# Altium footprint library Passives.PcbLib: 58 footprints (part 2 of 4)
Each footprint in its own frame and in the unit in brackets; x right, y up, seen from the top. Pads: shape width x height; smd on the part's side, far side on the other; paste and mask are expansions set on the pad; w line width, h text height; cw(c..) or ccw(c..) is an arc to the next point about the centre after c.
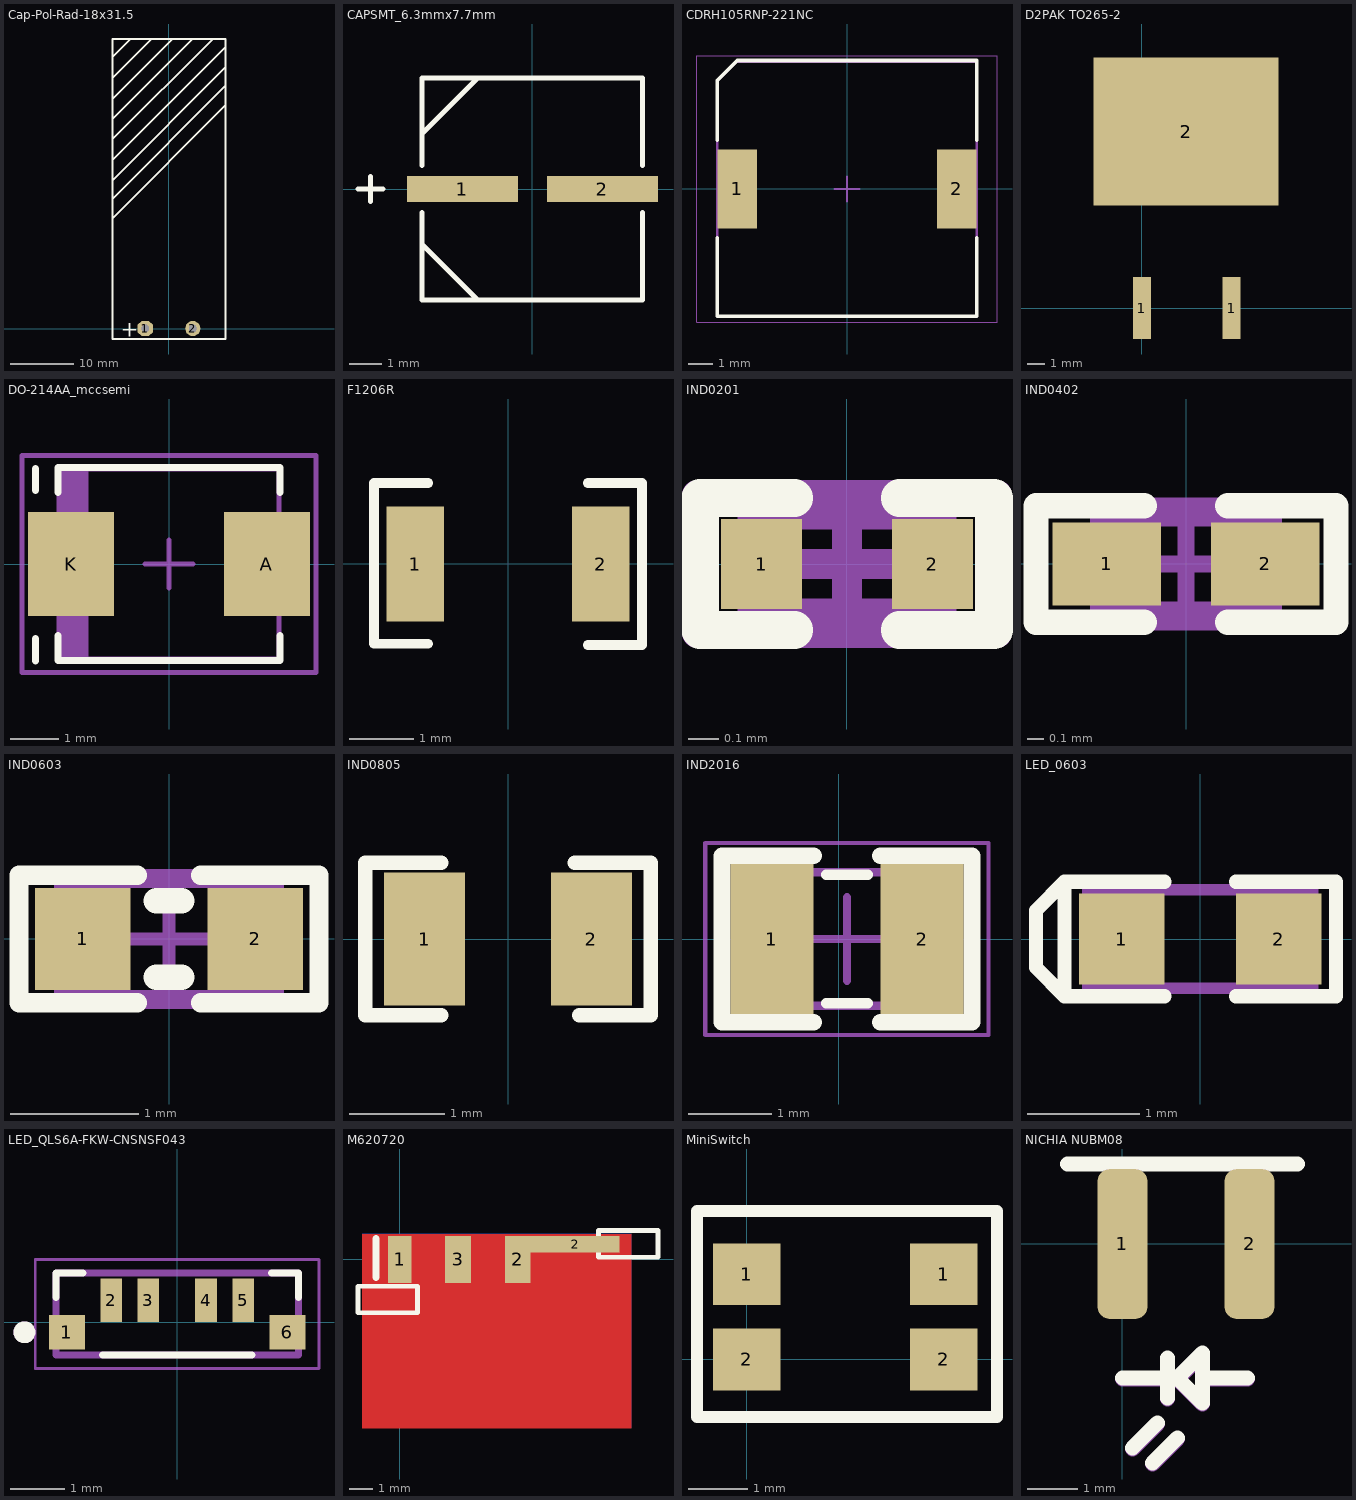
[diagram p1: the footprints below, top view; thin cyan lines are the x and y axes]

## Cap-Pol-Rad-18x31.5 [mm]
pads (2):
  oct 2.4x2.4 hole 1.2: 1(-3.75,0)
  round 2.4 hole 1.2: 2(3.75,0)
Top Overlay:
  lines w0.2: -8.89,15.748 -8.89,20.447 8.89,38.227 ; -8.89,16.637 -8.89,17.399 8.89,35.179 8.89,35.306 ; -8.89,21.463 -8.89,23.368 8.89,41.148 ; -8.89,25.273 -8.89,26.543 8.89,44.323 ; -8.89,28.575 -8.89,29.845 6.858,45.593 ; -8.89,32.131 -8.89,33.02 3.683,45.593 ; -8.89,36.195 0.508,45.593 -2.794,45.593 -8.89,39.497 -8.89,37.592 ; -8.89,42.799 -6.096,45.593 -5.461,45.593
  lines w0.3: -8.89,-1.651 8.89,-1.651 8.89,45.593 -8.89,45.593 -8.89,-1.651
  text "+" at -7.62,-1.27 h2.5
Mechanical 7:
  text ".Designator" at 0,-0.508 h0.3
3D body "CAPAER_D180_L315_P075_W008X030.STEP": height 18, standoff 0, extent -9.002,11.191 9.008,45.705

## CAPSMT_6.3mmx7.7mm [mil] "EEE-1VA101XP"
pads (2):
  rect 134x31 smd: 1(-84.5,0) 2(84.5,0)
Top Overlay:
  lines w6: -210.5,0 -180.5,0 ; -195.5,-15 -195.5,15 ; -133,-67 -66,-134 ; -133,-28.6 -133,-134 133,-134 133,-28.6 ; -133,28.6 -133,134 133,134 133,28.6 ; -133,67 -66,134
3D body "EEE-1VA101XP.STEP": height 303.19, standoff 0, extent -143.7,-129.92 143.7,129.92

## CDRH105RNP-221NC [mm] "Power Inductor"
pads (2):
  rect 1.6x3.2 smd: 1(-4.45,0) 2(4.45,0)
Top Overlay:
  lines w0.15: -5.25,-1.975 -5.25,-5.15 5.25,-5.15 5.25,-1.975 ; -5.25,1.975 -5.25,4.402 -4.445,5.207 5.25,5.207 5.25,1.975
Mechanical 15:
  lines w0.05: -6.075,-5.4 6.075,-5.4 6.075,5.4 -6.075,5.4 -6.075,-5.4
  lines w0.1: -0.5,0 0.5,0 ; 0,-0.5 0,0.5
Mechanical 17:
  lines w0.1: -5.25,-5.15 -5.25,4.402 -4.502,5.15 5.25,5.15 5.25,-5.15 -5.25,-5.15
  text ".Designator" at -3.175,-0.762 h0.8
3D body "CDRH105R.step": height 5.2, standoff 0, extent -5.2,-5 5.2,5

## D2PAK TO265-2 [mm]
pads (3):
  rect 1.016x3.504 smd: 1(0,0) 1(5.08,0)
  rect 10.49x8.38 smd: 2(2.5,10)
3D body "TO263-3-2.stp": height 4.22, standoff 0, extent -2.411,-1.06 7.411,13.541

## DO-214AA_mccsemi [mil]
pads (2):
  rect 70x85 smd: A(80,0) K(-80,0)
Top Overlay:
  lines w5.91: -109,-79 -109,-61 ; -109,60 -109,78 ; -90.55,-58.66 -90.55,-78.74 90.55,-78.74 90.55,-58.66 ; -90.55,58.66 -90.55,78.74 90.55,78.74 90.55,58.66
Mechanical 15:
  lines w3.94: -19.69,0 19.68,0 ; 0,-19.68 0,19.69 ; -120.08,-88.58 -120.08,88.58 120.08,88.58 120.08,-88.58 -120.08,-88.58
Mechanical 17:
  rectangle: -89.96,-77.56 -65.76,77.56
  lines w3.94: -89.96,-77.56 -89.96,77.56 89.96,77.56 89.96,-77.56 -89.96,-77.56
  text ".Designator" at -50,-25 h11.81
3D body "DO-214AA(SMB).step": height 103.36, standoff -0.64, extent -110,-77.74 110,77.76

## F1206R [mm]
pads (2):
  rect 0.9x1.8 smd: 1(-1.45,0) 2(1.45,0)
Top Overlay:
  lines w0.152: -1.25,-1.25 -2.1,-1.25 -2.1,1.27 -1.25,1.27 ; 1.25,-1.27 2.1,-1.27 2.1,1.27 1.25,1.27
Mechanical 7:
  text ".Designator" at -0.508,-0.127 h0.3
3D body "mf-nsmf075.stp": height 0.55, standoff 0, extent -1.6,-0.8 1.6,0.8

## IND0201 [mm]
pads (2):
  rect 0.27x0.3 smd: 1(-0.285,0) 2(0.285,0)
Top Overlay:
  lines w0.125: -0.175,-0.22 -0.49,-0.22 -0.49,0.22 -0.175,0.22 ; 0.175,-0.22 0.49,-0.22 0.49,0.22 0.175,0.22
Mechanical 7:
  lines w0.1: -0.315,-0.165 0.315,-0.165 0.315,0.165 -0.315,0.165 -0.315,-0.165
  text ".Designator" at -0.285,0 h0.3
Mechanical 15:
  lines w0.1: -0.165,0 0.165,0 ; 0,-0.165 0,0.165 ; -0.5,-0.23 0.5,-0.23 0.5,0.23 -0.5,0.23 -0.5,-0.23
3D body "User Library-smt_inductor-0201.step": height 0.26, standoff -0.01, extent -0.31,-0.16 0.31,0.16

## IND0402 [mm]
pads (2):
  rect 0.65x0.5 smd: 1(-0.475,0) 2(0.475,0)
Top Overlay:
  lines w0.152: -0.25,-0.35 -0.9,-0.35 -0.9,0.35 -0.25,0.35 ; 0.25,-0.35 0.9,-0.35 0.9,0.35 0.25,0.35
Mechanical 7:
  lines w0.1: -0.525,-0.275 -0.525,0.275 0.525,0.275 0.525,-0.275 -0.525,-0.275
  text ".Designator" at -0.432,-0.152 h0.3
Mechanical 15:
  lines w0.1: -0.275,0 0.275,0 ; 0,-0.275 0,0.275 ; -0.9,-0.35 -0.9,0.35 0.9,0.35 0.9,-0.35 -0.9,-0.35
3D body "User Library-Chip Inductor 0402.step": height 0.5, standoff 0, extent -0.5,-0.3 0.5,0.3

## IND0603 [mm]
pads (2):
  rect 0.75x0.8 smd: 1(-0.675,0) 2(0.675,0)
Top Overlay:
  lines w0.152: -0.25,-0.5 -1.175,-0.5 -1.175,0.5 -0.25,0.5 ; 0.25,-0.5 1.175,-0.5 1.175,0.5 0.25,0.5
  lines w0.2: -0.1,-0.3 0.1,-0.3 ; -0.1,0.3 0.1,0.3
Mechanical 7:
  lines w0.1: -0.85,-0.45 -0.85,0.45 0.85,0.45 0.85,-0.45 -0.85,-0.45
  text ".Designator" at -0.7,-0.2 h0.38
Mechanical 15:
  lines w0.1: -0.45,0 0.45,0 ; 0,-0.45 0,0.45 ; -1.175,-0.5 1.175,-0.5 1.175,0.5 -1.175,0.5 -1.175,-0.5
3D body "User Library-Chip Inductor.step": height 0.8, standoff 0, extent -0.8,-0.475 0.8,0.475

## IND0805 [mm] "Inductor 0805 reflow soldering"
pads (2):
  rect 0.85x1.4 smd: 1(-0.875,0) 2(0.875,0)
Top Overlay:
  lines w0.152: -0.7,-0.8 -1.5,-0.8 -1.5,0.8 -0.7,0.8 ; 0.7,0.8 1.5,0.8 1.5,-0.8 0.75,-0.8
Mechanical 7:
  text ".Designator" at -0.508,-0.127 h0.3
3D body "Inductor 0805.step": height 0.99, standoff -0.01, extent -1,-0.588 1,0.6

## IND2016 [mm] "Shielded Multilayer Inductor, 1.2A, ï¿½20%, 110mOhm, Q=10 @ 1MHz"
pads (2):
  rect 1x1.8 smd: 1(-0.8,0) 2(1,0)
Top Overlay:
  lines w0.125: -0.15,-0.77 0.35,-0.77 ; -0.15,0.77 0.35,0.77
  lines w0.2: -0.3,-1 -1.4,-1 -1.4,1 -0.3,1 ; 0.5,-1 1.6,-1 1.6,1 0.5,1
Mechanical 7:
  lines w0.1: -0.9,-0.8 1.1,-0.8 1.1,0.8 -0.9,0.8 -0.9,-0.8
  text ".Designator" at -0.425,-0.175 h0.38
Mechanical 15:
  lines w0.05: -1.6,-1.15 -1.6,1.15 1.8,1.15 1.8,-1.15 -1.6,-1.15
  lines w0.1: -0.4,0 0.6,0 ; 0.1,-0.5 0.1,0.5
3D body "INDC2016X10N.step": height 1, standoff 0, extent -0.9,-0.8 1.1,0.8

## LED_0603 [mil]
pads (2):
  rect 30x32 smd: 1(-27.5,0) 2(27.5,0)
Top Overlay:
  lines w5: -12.5,-20 -47.5,-20 ; -12.5,20 -47.5,20 ; 12.5,-20 47.5,-20 47.5,20 12.5,20 ; -47.5,-20 -57.5,-10 -57.5,10 -47.5,20 ; -47.5,-20 -47.5,20
Mechanical 7:
  lines w3.94: -27.56,-17.26 -27.56,17.26 ; -23.62,-17.26 -23.62,17.26 ; 23.62,-17.26 23.62,17.26 ; 27.56,-17.26 27.56,17.26 ; -39.37,-17.26 -39.37,17.26 39.37,17.26 39.37,-17.26 -39.37,-17.26
3D body "User Library-led_0603_green.step": height 23.62, standoff 0, extent -31.89,-15.74 31.9,15.75

## LED_QLS6A-FKW-CNSNSF043 [mm]
pads (6):
  rect 0.66x0.63 smd: 1(-2.02,-0.185) 6(2.02,-0.185)
  rect 0.4x0.8 smd: 2(-1.21,0.4) 3(-0.53,0.4) 4(0.53,0.4) 5(1.21,0.4)
Top Overlay:
  circle w0.2: c-2.8,-0.185 r0.1
  lines w0.127: -2.225,0.45 -2.225,0.9 -1.73,0.9 ; -1.37,-0.6 1.37,-0.6 ; 1.73,0.9 2.225,0.9 2.225,0.45
Mechanical 13:
  circle w0.2: c-2.8,-0.185 r0.1
  lines w0.127: -2.225,-0.6 -2.225,0.9 2.225,0.9 2.225,-0.6 -2.225,-0.6
Mechanical 15:
  lines w0.05: -2.6,-0.85 -2.6,1.15 2.6,1.15 2.6,-0.85 -2.6,-0.85
3D body "QLS6A-FKW-CNSNSF043.step": height 1.3, standoff 0, extent -2.35,-0.6 2.35,0.9

## M620720 [mm] "LORA Chip antenna"
pads (4):
  rect 1x2 smd: 1(0,0)
  rect 1.1x2 smd: 2(5.05,0) 3(2.5,0)
  rect 3.8x0.7 smd mask+0.102: 2(7.5,0.65)
Top Layer:
  pour cut-out: -1.596,1.084 9.904,1.084 9.904,-7.216 -1.596,-7.216
Bottom Layer:
  pour cut-out: -1.6,1.1 9.9,1.1 9.9,-7.2 -1.6,-7.2
Top Overlay:
  lines w0.2: -1.778,-2.286 0.762,-2.286 0.762,-1.143 -1.778,-1.143 -1.778,-2.286 ; 8.507,0.092 11.047,0.092 11.047,1.235 8.507,1.235 8.507,0.092
  lines w0.3: -1.016,-0.762 -1.016,0.889
Mechanical 15:
  text "Remove copper on GND layers below" at -0.889,-5.211 h0.75
  text "Use tented vias on GND planes" at -0.889,-3.941 h0.75
  text ".Designator" at 0,-0.258 h0.75
3D body "C1206_090.step": height 0.9, standoff 0, extent 2.134,-0.8 5.334,0.8
3D body "C1206_090.step": height 0.9, standoff 0, extent -0.33,-0.8 2.87,0.8

## MiniSwitch [mm]
pads (4):
  rect 1.15x1.05 smd: 1(0,1.45) 1(3.35,1.45) 2(0,0) 2(3.35,0)
Top Overlay:
  lines w0.2: -0.847,-0.978 4.253,-0.978 4.253,2.522 -0.847,2.522 -0.847,-0.978
3D body "EVPAA-002K_202K_402W_602W_802Q.STEP": height 1.7, standoff 0, extent -0.433,-0.783 3.867,2.326

## NICHIA NUBM08 [mm] "Laser Diode"
pads (2):
  rrect50% 1x3 smd: 1(0,0) 2(2.54,0)
Top Overlay:
  lines w0.3: -1.1,1.6 3.5,1.6 ; -0.005,-2.679 0.895,-2.679 ; 0.195,-4.079 0.695,-3.579 ; 0.595,-4.379 1.095,-3.879 ; 0.895,-3.079 0.895,-2.279 ; 1.595,-2.679 2.495,-2.679 ; 1.095,-3.879 1.095,-3.879 ; 2.495,-2.679 2.495,-2.679 ; 1.095,-2.679 1.595,-3.179 1.595,-2.179 1.095,-2.679
Mechanical 1:
  lines w0.3: 0,-2.7 0.9,-2.7 ; 0.2,-4.1 0.7,-3.6 ; 0.6,-4.4 1.1,-3.9 ; 0.9,-3.1 0.9,-2.3 ; 1.6,-2.7 2.5,-2.7 2.5,-2.7 ; 1.1,-3.9 1.1,-3.9 ; 1.1,-2.7 1.6,-3.2 1.6,-2.2 1.1,-2.7
  text "Board edge ->" at -0.9,-4.4 h1